# Altium schematic symbol library MODCMP-P152-M22X22_New.SchLib: 1 symbol
Pins are listed as number, name and electrical type; pins without a type are passive.

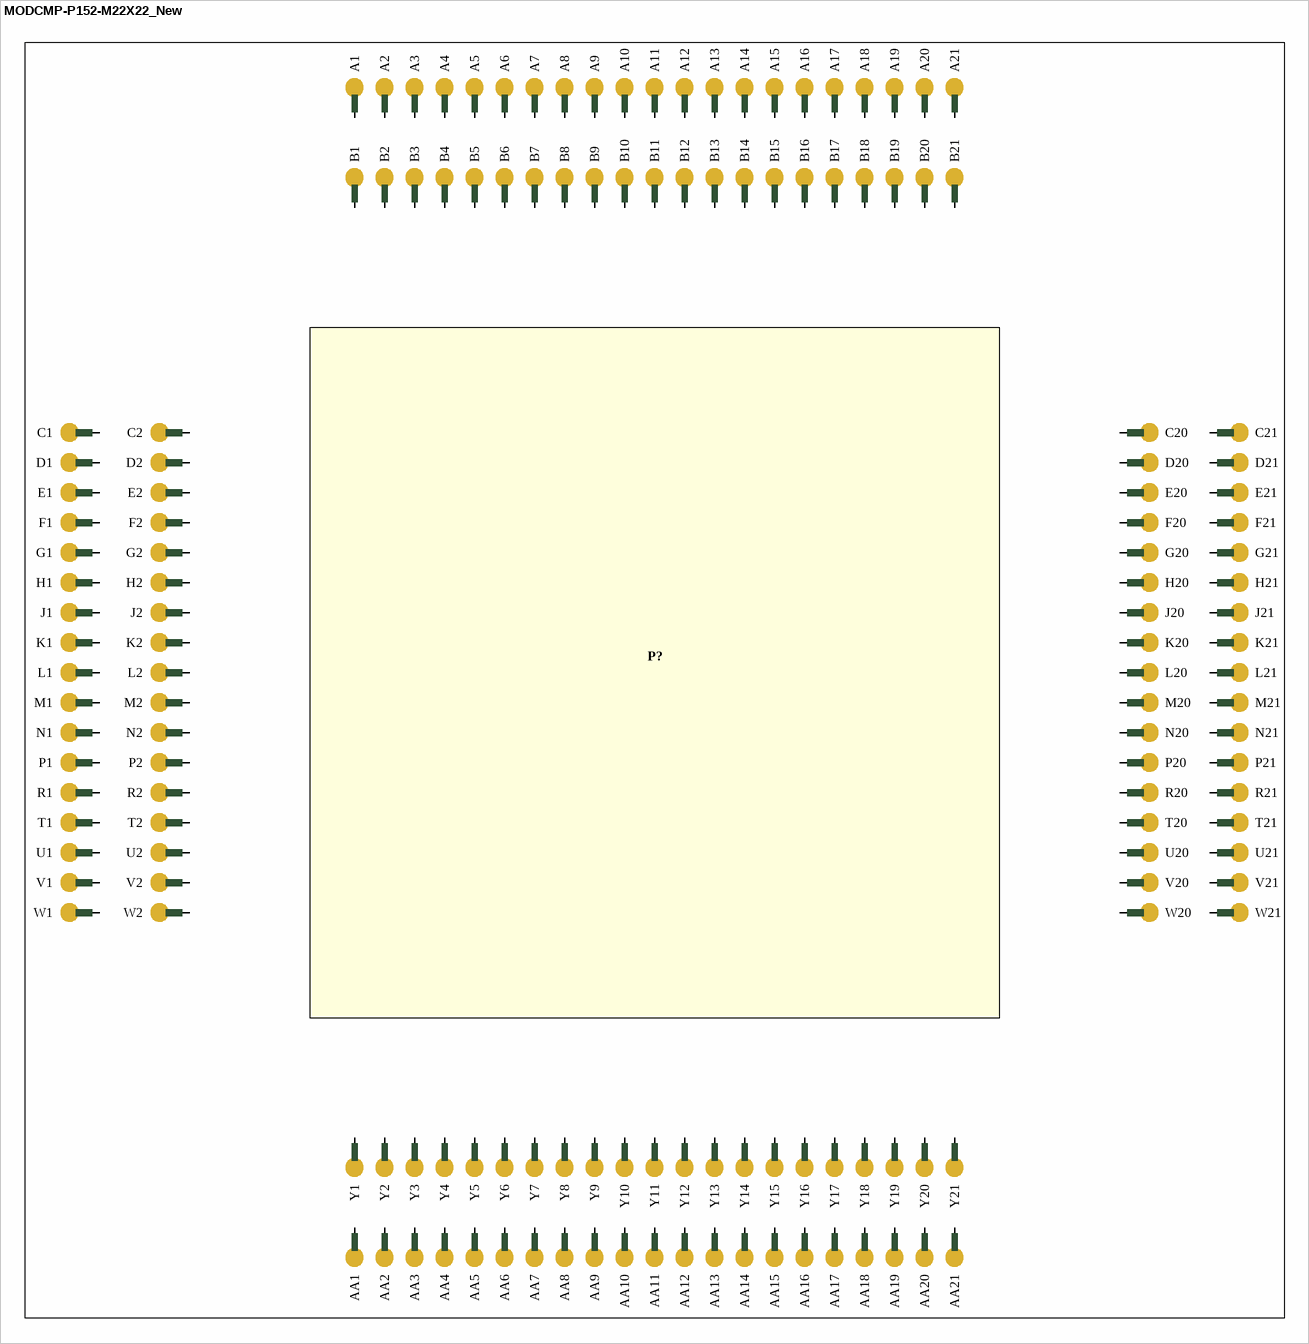
[diagram p0: symbol MODCMP-P152-M22X22_New]

## MODCMP-P152-M22X22_New
designator P?  (no BOM)
pins: A1, A2, A3, A4, A5, A6, A7, A8, A9, A10, A11, A12, A13, A14, A15, A16, A17, A18, A19, A20, A21, AA1, AA2, AA3, AA4, AA5, AA6, AA7, AA8, AA9, AA10, AA11, AA12, AA13, AA14, AA15, AA16, AA17, AA18, AA19, AA20, AA21, B1, B2, B3, B4, B5, B6, B7, B8, B9, B10, B11, B12, B13, B14, B15, B16, B17, B18, B19, B20, B21, C1, C2, C20, C21, D1, D2, D20, D21, E1, E2, E20, E21, F1, F2, F20, F21, G1, G2, G20, G21, H1, H2, H20, H21, J1, J2, J20, J21, K1, K2, K20, K21, L1, L2, L20, L21, M1, M2, M20, M21, N1, N2, N20, N21, P1, P2, P20, P21, R1, R2, R20, R21, T1, T2, T20, T21, U1, U2, U20, U21, V1, V2, V20, V21, W1, W2, W20, W21, Y1, Y2, Y3, Y4, Y5, Y6, Y7, Y8, Y9, Y10, Y11, Y12, Y13, Y14, Y15, Y16, Y17, Y18, Y19, Y20, Y21